# EAGLE library part CDNBS08-SRDA (library microchip_david)
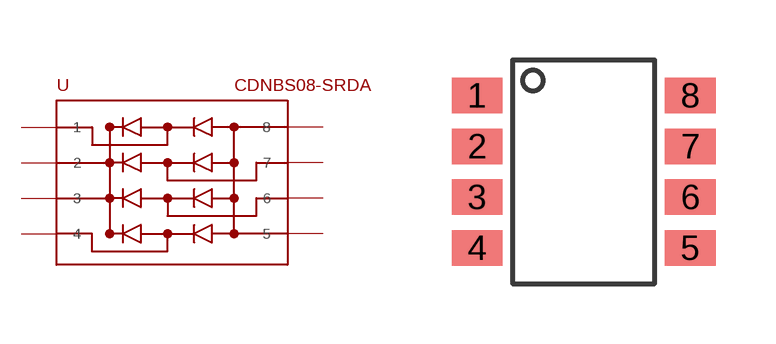
[diagram p0: symbol with the pads of CDNBS08-SRDA; footprint CDNBS08-SRDA]

Designator prefix U

## CDNBS08-SRDA  [CDNBS08-SRDA]
1  1
2  2
3  3
4  4
5  5
6  6
7  7
8  8

## Footprint CDNBS08-SRDA (pad centres in mm)
smd 1.27 x 0.889: 1 -2.667,1.905; 2 -2.667,0.635; 3 -2.667,-0.635; 4 -2.667,-1.905; 5 2.667,-1.905; 6 2.667,-0.635; 7 2.667,0.635; 8 2.667,1.905